# Altium footprint library Diode_THT.PcbLib: 111 footprints (part 2 of 7)
Each footprint in its own frame and in the unit in brackets; x right, y up, seen from the top. Pads: shape width x height; smd on the part's side, far side on the other; paste and mask are expansions set on the pad; w line width, h text height; cw(c..) or ccw(c..) is an arc to the next point about the centre after c.
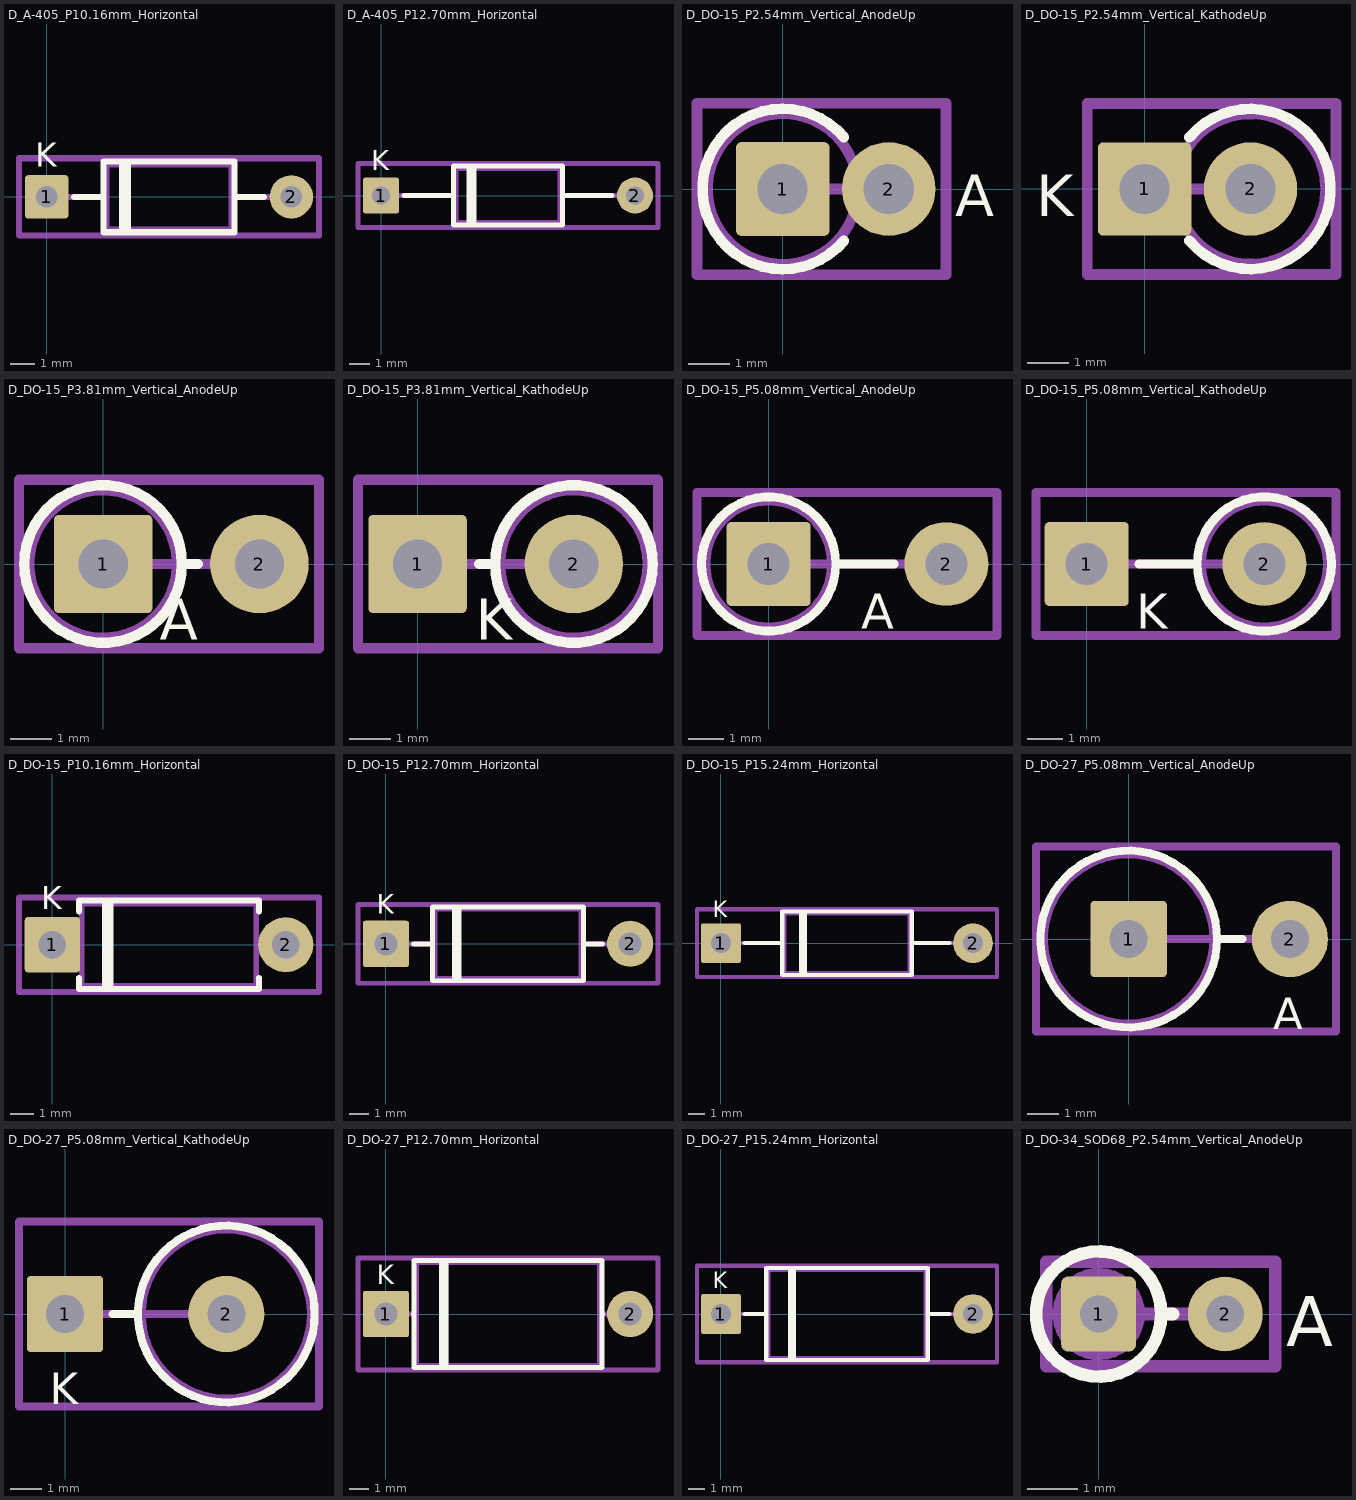
[diagram p1: the footprints below, top view; thin cyan lines are the x and y axes]

## D_A-405_P10.16mm_Horizontal [mm] "D_A-405_P10.16mm_Horizontal"
pads (2):
  rrect14% 1.8x1.8 hole 0.9: 1(0,0)
  round 1.8 hole 0.9: 2(10.16,0)
F.SilkS:
  lines w0.254: 1.14,0 2.36,0 ; 3.14,-1.47 3.14,1.47 ; 3.26,-1.47 3.26,1.47 ; 3.38,-1.47 3.38,1.47 ; 7.8,0 9.02,0 ; 2.36,-1.47 2.36,1.47 7.8,1.47 7.8,-1.47 2.36,-1.47
  text "K" at -0.483,1.25 h1
Top Component Center:
  lines w0.127: -0.127,0 0.127,0 ; 0,-0.127 0,0.127
Top Assembly:
  lines w0.254: 0,0 2.48,0 ; 3.16,-1.35 3.16,1.35 ; 3.26,-1.35 3.26,1.35 ; 3.36,-1.35 3.36,1.35 ; 7.68,0 10.16,0 ; 2.48,-1.35 2.48,1.35 7.68,1.35 7.68,-1.35 2.48,-1.35
  text "K" at -0.483,1.25 h1
Top Courtyard:
  lines w0.254: -1.15,-1.6 -1.15,1.6 11.31,1.6 11.31,-1.6 -1.15,-1.6
Top Designator:
  text ".Designator" at 1.9,-0.345 h1.52
3D body "D_A-405_P10.16mm_Horizontal.step": height 3.21, standoff -2.5, extent -0.3,-1.35 10.46,1.35

## D_A-405_P12.70mm_Horizontal [mm] "D_A-405_P12.70mm_Horizontal"
pads (2):
  rrect14% 1.8x1.8 hole 0.9: 1(0,0)
  round 1.8 hole 0.9: 2(12.7,0)
F.SilkS:
  lines w0.254: 1.14,0 3.63,0 ; 4.41,-1.47 4.41,1.47 ; 4.53,-1.47 4.53,1.47 ; 4.65,-1.47 4.65,1.47 ; 9.07,0 11.56,0 ; 3.63,-1.47 3.63,1.47 9.07,1.47 9.07,-1.47 3.63,-1.47
  text "K" at -0.483,1.25 h1
Top Component Center:
  lines w0.127: -0.127,0 0.127,0 ; 0,-0.127 0,0.127
Top Assembly:
  lines w0.254: 0,0 3.75,0 ; 4.43,-1.35 4.43,1.35 ; 4.53,-1.35 4.53,1.35 ; 4.63,-1.35 4.63,1.35 ; 8.95,0 12.7,0 ; 3.75,-1.35 3.75,1.35 8.95,1.35 8.95,-1.35 3.75,-1.35
  text "K" at -0.483,1.25 h1
Top Courtyard:
  lines w0.254: -1.15,-1.6 -1.15,1.6 13.85,1.6 13.85,-1.6 -1.15,-1.6
Top Designator:
  text ".Designator" at 2.916,-0.345 h1.52
3D body "D_A-405_P12.70mm_Horizontal.step": height 3.21, standoff -2.5, extent -0.3,-1.35 13,1.35

## D_DO-15_P2.54mm_Vertical_AnodeUp [mm] "D_DO-15_P2.54mm_Vertical_AnodeUp"
pads (2):
  rrect11% 2.24x2.24 hole 1.2: 1(0,0)
  round 2.24 hole 1.2: 2(2.54,0)
F.SilkS:
  lines w0.254: 1.466,-1.24 cw(c0,0) 1.466,1.24
  text "A" at 4.129,-0.65 h1
Top Component Center:
  lines w0.127: -0.127,0 0.127,0 ; 0,-0.127 0,0.127
Top Assembly:
  circle w0.254: c0,0 r1.8
  lines w0.254: 0,0 2.54,0
  text "A" at 4.129,-0.65 h1
Top Courtyard:
  lines w0.254: -2.05,-2.05 -2.05,2.05 3.91,2.05 3.91,-2.05 -2.05,-2.05
Top Designator:
  text ".Designator" at -2.164,1.052 h1.52
3D body "D_DO-15_P2.54mm_Vertical_AnodeUp.step": height 9.95, standoff -3, extent -1.798,-1.807 2.99,1.807

## D_DO-15_P2.54mm_Vertical_KathodeUp [mm] "D_DO-15_P2.54mm_Vertical_KathodeUp"
pads (2):
  rrect11% 2.24x2.24 hole 1.2: 1(0,0)
  round 2.24 hole 1.2: 2(2.54,0)
F.SilkS:
  lines w0.254: 1.074,-1.24 ccw(c2.54,0) 1.074,1.24
  text "K" at -2.603,-0.65 h1
Top Component Center:
  lines w0.127: -0.127,0 0.127,0 ; 0,-0.127 0,0.127
Top Assembly:
  circle w0.254: c2.54,0 r1.8
  lines w0.254: 0,0 2.54,0
  text "K" at -2.603,-0.65 h1
Top Courtyard:
  lines w0.254: -1.37,-2.05 -1.37,2.05 4.59,2.05 4.59,-2.05 -1.37,-2.05
Top Designator:
  text ".Designator" at -2.037,0.925 h1.52
3D body "D_DO-15_P2.54mm_Vertical_KathodeUp.step": height 9.95, standoff -3, extent -0.45,-1.807 4.35,1.807

## D_DO-15_P3.81mm_Vertical_AnodeUp [mm] "D_DO-15_P3.81mm_Vertical_AnodeUp"
pads (2):
  rrect10% 2.4x2.4 hole 1.2: 1(0,0)
  round 2.4 hole 1.2: 2(3.81,0)
F.SilkS:
  circle w0.254: c0,0 r1.92
  lines w0.254: 1.92,0 2.31,0
  text "A" at 1.379,-1.85 h1
Top Component Center:
  lines w0.127: -0.127,0 0.127,0 ; 0,-0.127 0,0.127
Top Assembly:
  circle w0.254: c0,0 r1.8
  lines w0.254: 0,0 3.81,0
  text "A" at 1.379,-1.85 h1
Top Courtyard:
  lines w0.254: -2.05,-2.05 5.26,-2.05 5.26,2.05 -2.05,2.05 -2.05,-2.05
Top Designator:
  text ".Designator" at -1.656,0.925 h1.52

## D_DO-15_P3.81mm_Vertical_KathodeUp [mm] "D_DO-15_P3.81mm_Vertical_KathodeUp"
pads (2):
  rrect10% 2.4x2.4 hole 1.2: 1(0,0)
  round 2.4 hole 1.2: 2(3.81,0)
F.SilkS:
  circle w0.254: c3.81,0 r1.92
  lines w0.254: 1.5,0 1.89,0
  text "K" at 1.417,-1.85 h1
Top Component Center:
  lines w0.127: -0.127,0 0.127,0 ; 0,-0.127 0,0.127
Top Assembly:
  circle w0.254: c3.81,0 r1.8
  lines w0.254: 0,0 3.81,0
  text "K" at 1.417,-1.85 h1
Top Courtyard:
  lines w0.254: -1.45,-2.05 5.86,-2.05 5.86,2.05 -1.45,2.05 -1.45,-2.05
Top Designator:
  text ".Designator" at -1.529,1.052 h1.52

## D_DO-15_P5.08mm_Vertical_AnodeUp [mm] "D_DO-15_P5.08mm_Vertical_AnodeUp"
pads (2):
  rrect10% 2.4x2.4 hole 1.2: 1(0,0)
  round 2.4 hole 1.2: 2(5.08,0)
F.SilkS:
  circle w0.254: c0,0 r1.92
  lines w0.254: 1.92,0 3.58,0
  text "A" at 2.649,-1.85 h1
Top Component Center:
  lines w0.127: -0.127,0 0.127,0 ; 0,-0.127 0,0.127
Top Assembly:
  circle w0.254: c0,0 r1.8
  lines w0.254: 0,0 5.08,0
  text "A" at 2.649,-1.85 h1
Top Courtyard:
  lines w0.254: -2.05,-2.05 6.53,-2.05 6.53,2.05 -2.05,2.05 -2.05,-2.05
Top Designator:
  text ".Designator" at -0.513,0.925 h1.52
3D body "D_DO-15_P5.08mm_Vertical_AnodeUp.step": height 9.95, standoff -3, extent -1.798,-1.807 5.53,1.807

## D_DO-15_P5.08mm_Vertical_KathodeUp [mm] "D_DO-15_P5.08mm_Vertical_KathodeUp"
pads (2):
  rrect10% 2.4x2.4 hole 1.2: 1(0,0)
  round 2.4 hole 1.2: 2(5.08,0)
F.SilkS:
  circle w0.254: c5.08,0 r1.92
  lines w0.254: 1.5,0 3.16,0
  text "K" at 1.417,-1.85 h1
Top Component Center:
  lines w0.127: -0.127,0 0.127,0 ; 0,-0.127 0,0.127
Top Assembly:
  circle w0.254: c5.08,0 r1.8
  lines w0.254: 0,0 5.08,0
  text "K" at 1.417,-1.85 h1
Top Courtyard:
  lines w0.254: -1.45,-2.05 7.13,-2.05 7.13,2.05 -1.45,2.05 -1.45,-2.05
Top Designator:
  text ".Designator" at -0.64,0.925 h1.52
3D body "D_DO-15_P5.08mm_Vertical_KathodeUp.step": height 9.95, standoff -3, extent -0.45,-1.807 6.89,1.807

## D_DO-15_P10.16mm_Horizontal [mm] "D_DO-15_P10.16mm_Horizontal"
pads (2):
  rrect10% 2.4x2.4 hole 1.2: 1(0,0)
  round 2.4 hole 1.2: 2(10.16,0)
F.SilkS:
  lines w0.254: 1.16,-1.44 1.16,-1.92 9,-1.92 9,-1.44 ; 1.16,1.44 1.16,1.92 9,1.92 9,1.44 ; 2.3,-1.92 2.3,1.92 ; 2.42,-1.92 2.42,1.92 ; 2.54,-1.92 2.54,1.92
  text "K" at -0.483,1.55 h1
Top Component Center:
  lines w0.127: -0.127,0 0.127,0 ; 0,-0.127 0,0.127
Top Assembly:
  lines w0.254: 0,0 1.28,0 ; 2.32,-1.8 2.32,1.8 ; 2.42,-1.8 2.42,1.8 ; 2.52,-1.8 2.52,1.8 ; 8.88,0 10.16,0 ; 1.28,-1.8 1.28,1.8 8.88,1.8 8.88,-1.8 1.28,-1.8
  text "K" at -0.483,1.55 h1
Top Courtyard:
  lines w0.254: -1.45,-2.05 -1.45,2.05 11.61,2.05 11.61,-2.05 -1.45,-2.05
Top Designator:
  text ".Designator" at 2.027,-0.472 h1.52
3D body "D_DO-15_P10.16mm_Horizontal.step": height 4.11, standoff -2.5, extent -0.45,-1.807 10.61,1.807

## D_DO-15_P12.70mm_Horizontal [mm] "D_DO-15_P12.70mm_Horizontal"
pads (2):
  rrect10% 2.4x2.4 hole 1.2: 1(0,0)
  round 2.4 hole 1.2: 2(12.7,0)
F.SilkS:
  lines w0.254: 1.44,0 2.43,0 ; 3.57,-1.92 3.57,1.92 ; 3.69,-1.92 3.69,1.92 ; 3.81,-1.92 3.81,1.92 ; 10.27,0 11.26,0 ; 2.43,-1.92 2.43,1.92 10.27,1.92 10.27,-1.92 2.43,-1.92
  text "K" at -0.483,1.55 h1
Top Component Center:
  lines w0.127: -0.127,0 0.127,0 ; 0,-0.127 0,0.127
Top Assembly:
  lines w0.254: 0,0 2.55,0 ; 3.59,-1.8 3.59,1.8 ; 3.69,-1.8 3.69,1.8 ; 3.79,-1.8 3.79,1.8 ; 10.15,0 12.7,0 ; 2.55,-1.8 2.55,1.8 10.15,1.8 10.15,-1.8 2.55,-1.8
  text "K" at -0.483,1.55 h1
Top Courtyard:
  lines w0.254: -1.45,-2.05 -1.45,2.05 14.15,2.05 14.15,-2.05 -1.45,-2.05
Top Designator:
  text ".Designator" at 3.297,-0.218 h1.52
3D body "D_DO-15_P12.70mm_Horizontal.step": height 4.11, standoff -2.5, extent -0.45,-1.807 13.15,1.807

## D_DO-15_P15.24mm_Horizontal [mm] "D_DO-15_P15.24mm_Horizontal"
pads (2):
  rrect10% 2.4x2.4 hole 1.2: 1(0,0)
  round 2.4 hole 1.2: 2(15.24,0)
F.SilkS:
  lines w0.254: 1.44,0 3.7,0 ; 4.84,-1.92 4.84,1.92 ; 4.96,-1.92 4.96,1.92 ; 5.08,-1.92 5.08,1.92 ; 11.54,0 13.8,0 ; 3.7,-1.92 3.7,1.92 11.54,1.92 11.54,-1.92 3.7,-1.92
  text "K" at -0.483,1.55 h1
Top Component Center:
  lines w0.127: -0.127,0 0.127,0 ; 0,-0.127 0,0.127
Top Assembly:
  lines w0.254: 0,0 3.82,0 ; 4.86,-1.8 4.86,1.8 ; 4.96,-1.8 4.96,1.8 ; 5.06,-1.8 5.06,1.8 ; 11.42,0 15.24,0 ; 3.82,-1.8 3.82,1.8 11.42,1.8 11.42,-1.8 3.82,-1.8
  text "K" at -0.483,1.55 h1
Top Courtyard:
  lines w0.254: -1.45,-2.05 -1.45,2.05 16.69,2.05 16.69,-2.05 -1.45,-2.05
Top Designator:
  text ".Designator" at 4.821,-0.345 h1.52
3D body "D_DO-15_P15.24mm_Horizontal.step": height 4.11, standoff -2.5, extent -0.45,-1.807 15.69,1.807

## D_DO-27_P5.08mm_Vertical_AnodeUp [mm] "D_DO-27_P5.08mm_Vertical_AnodeUp"
pads (2):
  rrect10% 2.4x2.4 hole 1.2: 1(0,0)
  round 2.4 hole 1.2: 2(5.08,0)
F.SilkS:
  circle w0.254: c0,0 r2.785
  lines w0.254: 2.785,0 3.58,0
  text "A" at 4.549,-2.85 h1
Top Component Center:
  lines w0.127: -0.127,0 0.127,0 ; 0,-0.127 0,0.127
Top Assembly:
  circle w0.254: c0,0 r2.665
  lines w0.254: 0,0 5.08,0
  text "A" at 4.549,-2.85 h1
Top Courtyard:
  lines w0.254: -2.92,-2.92 -2.92,2.92 6.53,2.92 6.53,-2.92 -2.92,-2.92
Top Designator:
  text ".Designator" at -1.402,1.56 h1.52
3D body "D_DO-27_P5.08mm_Vertical_AnodeUp.step": height 11.87, standoff -3, extent -2.663,-2.672 5.53,2.672

## D_DO-27_P5.08mm_Vertical_KathodeUp [mm] "D_DO-27_P5.08mm_Vertical_KathodeUp"
pads (2):
  rrect10% 2.4x2.4 hole 1.2: 1(0,0)
  round 2.4 hole 1.2: 2(5.08,0)
F.SilkS:
  circle w0.254: c5.08,0 r2.785
  lines w0.254: 1.5,0 2.295,0
  text "K" at -0.483,-2.85 h1
Top Component Center:
  lines w0.127: -0.127,0 0.127,0 ; 0,-0.127 0,0.127
Top Assembly:
  circle w0.254: c5.08,0 r2.665
  lines w0.254: 0,0 5.08,0
  text "K" at -0.483,-2.85 h1
Top Courtyard:
  lines w0.254: -1.45,-2.92 8,-2.92 8,2.92 -1.45,2.92 -1.45,-2.92
Top Designator:
  text ".Designator" at -0.259,1.56 h1.52
3D body "D_DO-27_P5.08mm_Vertical_KathodeUp.step": height 11.87, standoff -3, extent -0.45,-2.672 7.755,2.672

## D_DO-27_P12.70mm_Horizontal [mm] "D_DO-27_P12.70mm_Horizontal"
pads (2):
  rrect10% 2.4x2.4 hole 1.2: 1(0,0)
  round 2.4 hole 1.2: 2(12.7,0)
F.SilkS:
  lines w0.254: 1.44,0 1.47,0 ; 2.898,-2.785 2.898,2.785 ; 3.018,-2.785 3.018,2.785 ; 3.138,-2.785 3.138,2.785 ; 11.23,0 11.26,0 ; 1.47,-2.785 1.47,2.785 11.23,2.785 11.23,-2.785 1.47,-2.785
  text "K" at -0.483,1.55 h1
Top Component Center:
  lines w0.127: -0.127,0 0.127,0 ; 0,-0.127 0,0.127
Top Assembly:
  lines w0.254: 0,0 1.59,0 ; 2.918,-2.665 2.918,2.665 ; 3.018,-2.665 3.018,2.665 ; 3.118,-2.665 3.118,2.665 ; 11.11,0 12.7,0 ; 1.59,-2.665 1.59,2.665 11.11,2.665 11.11,-2.665 1.59,-2.665
  text "K" at -0.483,1.55 h1
Top Courtyard:
  lines w0.254: -1.45,-2.92 -1.45,2.92 14.15,2.92 14.15,-2.92 -1.45,-2.92
Top Designator:
  text ".Designator" at 3.678,-0.345 h1.52
3D body "D_DO-27_P12.70mm_Horizontal.step": height 5.84, standoff -2.5, extent -0.45,-2.672 13.15,2.672

## D_DO-27_P15.24mm_Horizontal [mm] "D_DO-27_P15.24mm_Horizontal"
pads (2):
  rrect10% 2.4x2.4 hole 1.2: 1(0,0)
  round 2.4 hole 1.2: 2(15.24,0)
F.SilkS:
  lines w0.254: 1.44,0 2.74,0 ; 4.168,-2.785 4.168,2.785 ; 4.288,-2.785 4.288,2.785 ; 4.408,-2.785 4.408,2.785 ; 12.5,0 13.8,0 ; 2.74,-2.785 2.74,2.785 12.5,2.785 12.5,-2.785 2.74,-2.785
  text "K" at -0.483,1.55 h1
Top Component Center:
  lines w0.127: -0.127,0 0.127,0 ; 0,-0.127 0,0.127
Top Assembly:
  lines w0.254: 0,0 2.86,0 ; 4.188,-2.665 4.188,2.665 ; 4.288,-2.665 4.288,2.665 ; 4.388,-2.665 4.388,2.665 ; 12.38,0 15.24,0 ; 2.86,-2.665 2.86,2.665 12.38,2.665 12.38,-2.665 2.86,-2.665
  text "K" at -0.483,1.55 h1
Top Courtyard:
  lines w0.254: -1.45,-2.92 -1.45,2.92 16.69,2.92 16.69,-2.92 -1.45,-2.92
Top Designator:
  text ".Designator" at 4.948,-0.472 h1.52
3D body "D_DO-27_P15.24mm_Horizontal.step": height 5.84, standoff -2.5, extent -0.45,-2.672 15.69,2.672

## D_DO-34_SOD68_P2.54mm_Vertical_AnodeUp [mm] "D_DO-34_SOD68_P2.54mm_Vertical_AnodeUp"
pads (2):
  rrect17% 1.5x1.5 hole 0.75: 1(0,0)
  round 1.5 hole 0.75: 2(2.54,0)
F.SilkS:
  circle w0.254: c0,0 r1.256
  lines w0.254: 1.256,0 1.49,0
  text "A" at 3.759,-0.65 h1
Top Component Center:
  lines w0.127: -0.127,0 0.127,0 ; 0,-0.127 0,0.127
Top Assembly:
  circle w0.254: c0,0 r0.8
  lines w0.254: 0,0 2.54,0
  text "A" at 3.759,-0.65 h1
Top Courtyard:
  lines w0.254: -1.05,-1.05 3.54,-1.05 3.54,1.05 -1.05,1.05 -1.05,-1.05
Top Designator:
  text ".Designator" at -1.11,0.408 h1